# Altium schematic symbol library MMPQ3906 PNP General Purpose Amp.SchLib: 1 symbol
Pins are listed as number, name and electrical type; pins without a type are passive.

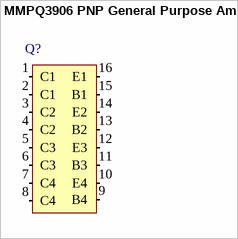
[diagram p0: symbol MMPQ3906 PNP General Purpose Amp]

## MMPQ3906 PNP General Purpose Amp
designator Q?
pins: 1 C1 (in), 2 C1 (in), 3 C2 (in), 4 C2 (in), 5 C3 (in), 6 C3 (in), 7 C4 (in), 8 C4 (in), 9 B4 (in), 10 E4 (in), 11 B3 (in), 12 E3 (in), 13 B2 (in), 14 E2 (in), 15 B1 (in), 16 E1 (in)